# Altium footprint library linear.PCBLIB: 119 footprints (part 6 of 8)
Each footprint in its own frame and in the unit in brackets; x right, y up, seen from the top. Pads: shape width x height; smd on the part's side, far side on the other; paste and mask are expansions set on the pad; w line width, h text height; cw(c..) or ccw(c..) is an arc to the next point about the centre after c.
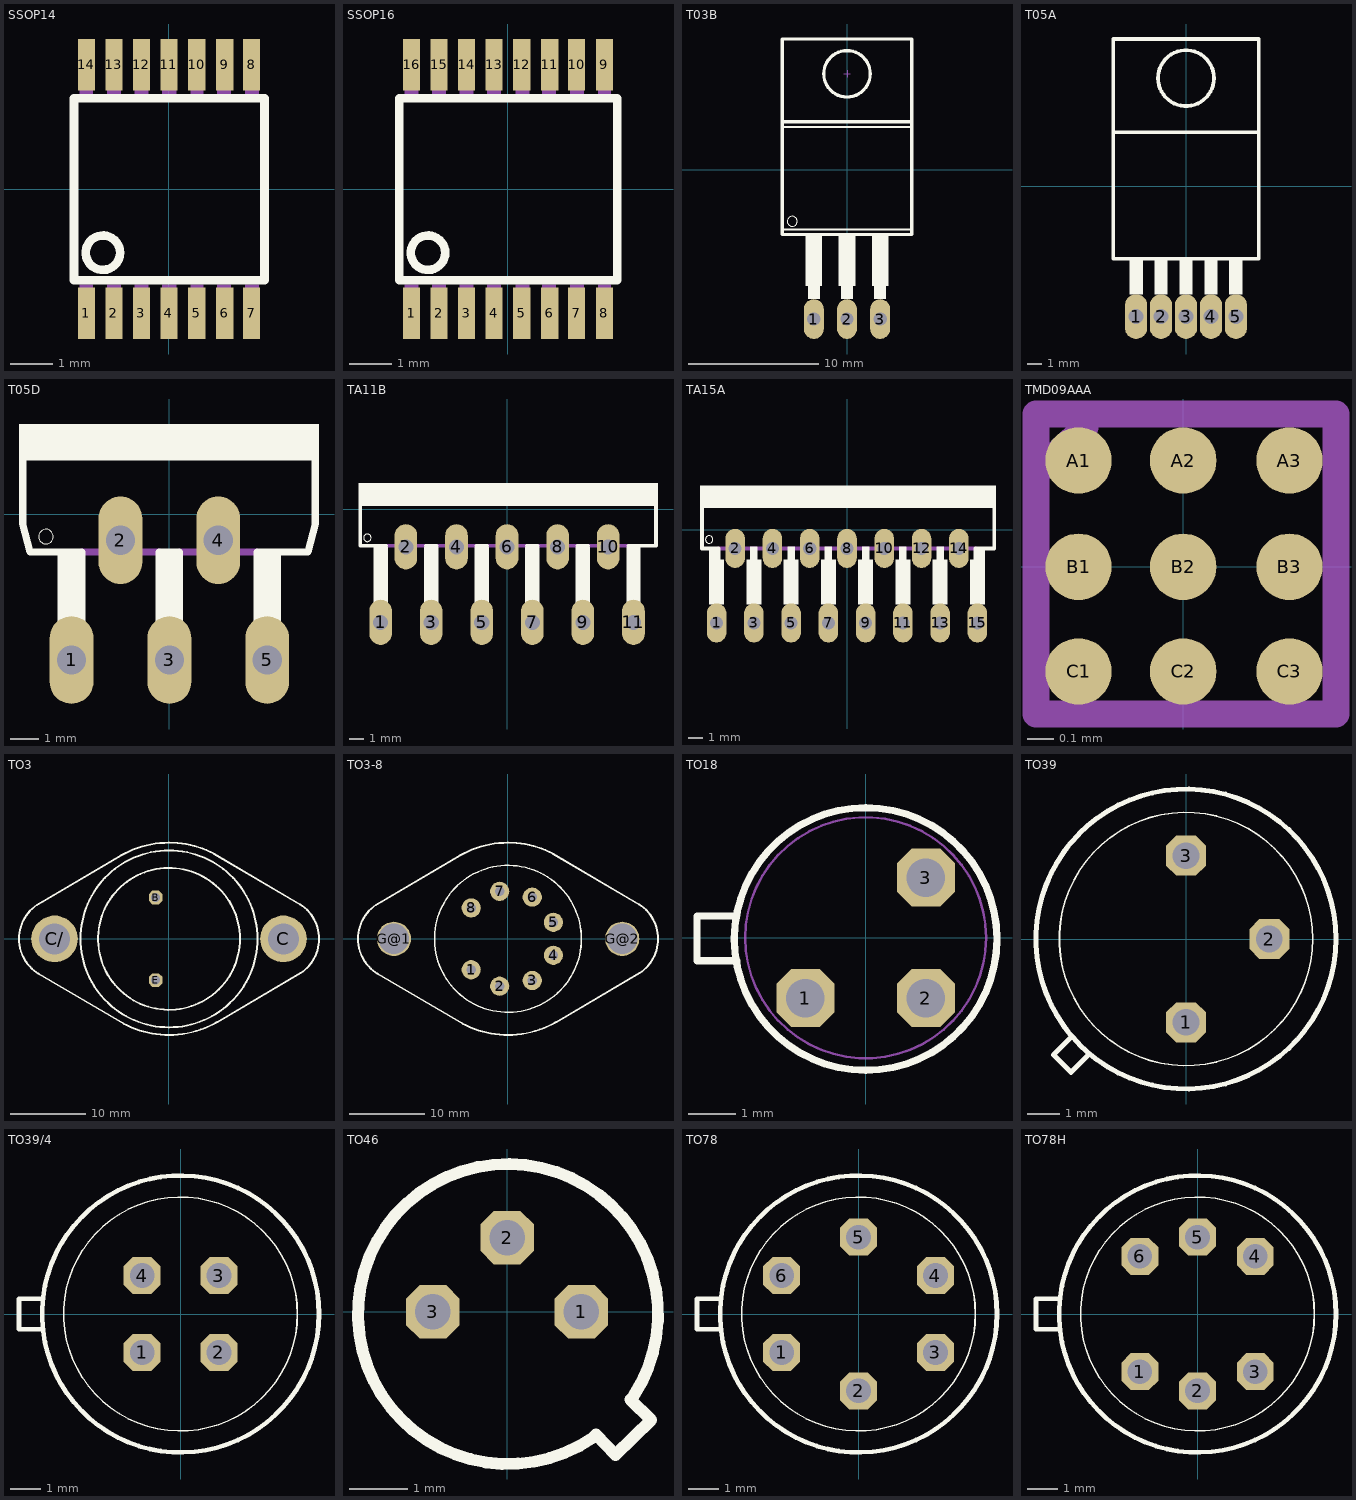
[diagram p5: the footprints below, top view; thin cyan lines are the x and y axes]

## SSOP14 [mil]
pads (14):
  rect 16x48 smd: 1(-76.77,-115.16) 2(-51.18,-115.16) 3(-25.59,-115.16) 4(0,-115.16) 5(26,-115.16) 6(52,-115.16) 7(77,-115.16) 8(77,116) 9(52,116) 10(26,116) 11(0,116) 12(-25.59,116) 13(-51.18,116) 14(-76.77,116)
Top Overlay:
  circle w8: c-61.42,-58.86 r16
  lines w8: -88.31,-84.45 89,-84.45 89,85 -88.31,85 -88.31,-84.45
Mechanical 16:
  rectangle: -83.17,-130.51 -70.37,-88.29
  rectangle: -57.58,-130.51 -44.78,-88.29
  rectangle: -31.99,-130.51 -19.19,-88.29
  rectangle: -6.4,-130.51 7,-88.29
  rectangle: 20,-130.51 32,-88.29
  rectangle: 45,-130.51 58,-88.29
  rectangle: 71,-130.51 84,-88.29
  region: 84,131 71,131 71,89 84,89
  rectangle: 45,89 58,131
  rectangle: 20,89 32,131
  rectangle: -6.4,89 7,131
  rectangle: -31.99,89 -19.19,131
  rectangle: -57.58,89 -44.78,131
  rectangle: -83.17,89 -70.37,131

## SSOP16 [mil]
pads (16):
  rect 16x48 smd: 1(-89.57,-115.16) 2(-63.98,-115.16) 3(-38.39,-115.16) 4(-12.8,-115.16) 5(13,-115.16) 6(39,-115.16) 7(64,-115.16) 8(90,-115.16) 9(90,116) 10(64,116) 11(39,116) 12(13,116) 13(-12.8,116) 14(-38.39,116) 15(-63.98,116) 16(-89.57,116)
Top Overlay:
  circle w8: c-74.21,-58.86 r16
  lines w8: -101.1,-84.45 102,-84.45 102,85 -101.1,85 -101.1,-84.45
Mechanical 16:
  rectangle: -95.96,-130.51 -83.17,-88.29
  rectangle: -70.37,-130.51 -57.58,-88.29
  rectangle: -44.78,-130.51 -31.99,-88.29
  rectangle: -19.19,-130.51 -6.4,-88.29
  rectangle: 7,-130.51 20,-88.29
  rectangle: 32,-130.51 45,-88.29
  rectangle: 58,-130.51 71,-88.29
  rectangle: 84,-130.51 96,-88.29
  rectangle: 84,89 96,131
  rectangle: 58,89 71,131
  rectangle: 32,89 45,131
  rectangle: 7,89 20,131
  rectangle: -19.19,89 -6.4,131
  rectangle: -44.78,89 -31.99,131
  rectangle: -70.37,89 -57.58,131
  rectangle: -95.96,89 -83.17,131

## T03B [mil]
pads (3):
  oval 60x120 hole 40: 1(-100,-450) 2(0,-450) 3(100,-450)
Top Overlay:
  circle w0: c-165,-155 r15
  circle w10: c0,290 r70
  rectangle: -125,-350 -75,-198
  rectangle: -118,-390 -82,-348
  rectangle: -25,-350 25,-198
  rectangle: -18,-390 18,-348
  rectangle: 75,-350 125,-198
  rectangle: 82,-390 118,-348
  lines w6: -190,-180 190,-180 ; -190,130 190,130
  lines w10: -195,145 -195,-195 195,-195 195,145 ; -195,145 -195,395 195,395 195,145 ; -195,145 195,145
Mechanical 16:
  lines w2: -10,290 10,290 ; 0,280 0,300

## T05A [mil]
pads (5):
  oval 60x120 hole 40: 1(-134,-350) 2(-67,-350) 3(0,-350) 4(67,-350) 5(134,-350)
Top Overlay:
  circle w10: c0,290 r75
  rectangle: -152,-290 -116,-195
  rectangle: -85,-290 -49,-195
  rectangle: -18,-290 18,-195
  rectangle: 49,-290 85,-195
  rectangle: 116,-290 152,-195
  lines w10: -195,145 -195,-195 195,-195 195,145 ; -195,145 195,145 ; -195,145 -195,395 195,395 195,145

## T05D [mil]
pads (5):
  oval 60x120 hole 40: 1(-134,-200) 2(-67,-36) 3(0,-200) 4(67,-36) 5(134,-200)
Top Overlay:
  circle w0: c-169,-31 r10
  rectangle: -206,73 205,123
  rectangle: -153,-152 -115,-53
  rectangle: -19,-152 19,-53
  rectangle: 115,-152 153,-53
  lines w10: -201,79 -201,-13 -191,-52 -120,-52 ; -14,-52 14,-52 ; 120,-52 190,-52 200,-13 200,79
Mechanical 16:
  lines w10: -120,-52 -14,-52 ; 14,-52 120,-52

## TA11B [mil]
pads (11):
  oval 60x120 hole 40: 1(-335,-300) 2(-268,-100) 3(-201,-300) 4(-134,-100) 5(-67,-300) 6(0,-100) 7(67,-300) 8(134,-100) 9(201,-300) 10(268,-100) 11(335,-300)
Top Overlay:
  circle w0: c-370,-76 r10
  rectangle: -354,-252 -316,-100
  rectangle: -220,-252 -182,-100
  rectangle: -86,-252 -48,-100
  rectangle: 48,-252 86,-100
  rectangle: 182,-252 220,-100
  rectangle: 316,-252 354,-100
  rectangle: -394,8 400,69
  lines w10: -389,11 -389,-97 -321,-97 ; -215,-97 -187,-97 ; -81,-97 -53,-97 ; 53,-97 81,-97 ; 187,-97 215,-97 ; 321,-97 395,-97 395,34
Mechanical 16:
  lines w10: -321,-97 -215,-97 ; -187,-97 -81,-97 ; -53,-97 53,-97 ; 81,-97 187,-97 ; 215,-97 321,-97

## TA15A [mil]
pads (15):
  oval 52.5x105 hole 35: 1(-350,-250) 2(-300,-50) 3(-250,-250) 4(-200,-50) 5(-150,-250) 6(-100,-50) 7(-50,-250) 8(0,-50) 9(50,-250) 10(100,-50) 11(150,-250) 12(200,-50) 13(250,-250) 14(300,-50) 15(350,-250)
Top Overlay:
  circle w0: c-370,-26 r10
  rectangle: -394,58 400,119
  rectangle: -370,-85 -340,-50
  rectangle: -370,-200 -330,-80
  rectangle: -270,-200 -230,-80
  rectangle: -260,-90 -240,-45
  rectangle: -170,-200 -130,-80
  rectangle: -160,-90 -140,-45
  rectangle: -70,-200 -30,-80
  rectangle: -60,-90 -40,-45
  rectangle: 30,-200 70,-80
  rectangle: 40,-90 60,-45
  rectangle: 130,-200 170,-80
  rectangle: 140,-90 160,-45
  rectangle: 230,-200 270,-80
  rectangle: 240,-90 260,-45
  rectangle: 340,-85 370,-50
  rectangle: 330,-200 370,-80
  lines w10: -389,61 -389,-50 -345,-50 ; 345,-50 395,-50 395,84
Mechanical 16:
  lines w10: -345,-50 345,-50

## TMD09AAA [mil]
pads (9):
  rrect100% 10x10 smd: A1(-15.75,16) A2(0,16) A3(16,16) B1(-15.75,0) B2(0,0) B3(16,0) C1(-15.75,-15.75) C2(0,-15.75) C3(16,-15.75)
Top Solder:
  circle w0: c-15.75,16 r5
  circle w0: c0,16 r5
  circle w0: c16,16 r5
  circle w0: c-15.75,0 r5
  circle w0: c0,0 r5
  circle w0: c16,0 r5
  circle w0: c-15.75,-15.75 r5
  circle w0: c0,-15.75 r5
  circle w0: c16,-15.75 r5
Mechanical 16:
  lines w4: -21.16,15 -14.76,21 ; -22.15,-22.15 23,-22.15 23,23 -22.15,23 -22.15,-22.15

## TO3 [mil]
pads (4):
  oct 70.5x70.5 hole 47: B(-70,215) E(-70,-215)
  round 243 hole 162: C(595,0) C/(-595,0)
Top Overlay:
  circle w10: c0,0 r369
  circle w10: c0,0 r460
  lines w10: -680,180 -250,433 ; -679,-181 -234,-442 ; -675.41,-183.35 cw(c-567,0) -780,0 cw(c-566.81,0.11) -672.94,185 ; -250.86,433 cw(c-0.9,0.24) 0,500 cw(c2,-1) 236,442 ; -235.3,-441.18 ccw(c0,0) 0,-500 ccw(c0.07,0.26) 251,-432.52 ; 235,441 684,178 ; 251,-433 684,-178 ; 683,-178.94 ccw(c567.23,-0.42) 780,0 ccw(c567.17,0.45) 683,179
Mechanical 16:
  circle w6: c595,0 r85
  circle w6: c-595,0 r85

## TO3-8 [mil]
pads (10):
  round 100 hole 48: 1(-191.34,-160.63) 2(-43.31,-246.06) 3(126,-216.54) 4(236,-85.43) 5(236,86) 6(126,217) 7(-43.31,247) 8(-191.34,161)
  round 178 hole 158: G@1(-593.31,0) G@2(594,0)
Top Overlay:
  circle w8: c0,0 r382
  lines w10: -680,180 -250,433 ; -679,-181 -234,-442 ; -675.41,-183.35 cw(c-567,0) -780,0 cw(c-566.81,0.11) -672.94,185 ; -250.86,433 cw(c-0.9,0.24) 0,500 cw(c2,-1) 236,442 ; -235.3,-441.18 ccw(c0,0) 0,-500 ccw(c0.07,0.26) 251,-432.52 ; 235,441 684,178 ; 251,-433 684,-178 ; 683,-178.94 ccw(c567.23,-0.42) 780,0 ccw(c567.17,0.45) 683,179

## TO18 [mil]
pads (3):
  oct 48x48 hole 32: 1(-50,-50) 2(50,-50) 3(50,50)
Top Overlay:
  circle w6: c0,-1 r109
  lines w6: -108,18 -140,18 -140,-19 -107,-19
Mechanical 16:
  circle w2: c0,0 r100

## TO39 [mil]
pads (3):
  oct 48x48 hole 32: 1(0,-100) 2(100,0) 3(0,100)
Top Overlay:
  circle w6: c0,0 r180
  circle w2: c0,0 r152
  lines w6: -138,-118 -159,-139 -138,-160 -117,-139

## TO39/4 [mil]
pads (4):
  oct 48x48 hole 32: 1(-50,-50) 2(50,-50) 3(50,50) 4(-50,50)
Top Overlay:
  circle w6: c0,0 r180
  circle w2: c0,0 r152
  lines w6: -180,-20 -210,-20 -210,20 -180,20

## TO46 [mil]
pads (3):
  oct 36x36 hole 24: 1(50,0) 2(0,50) 3(-50,0)
Top Overlay:
  lines w8: 58,-84.65 cw(c0.63,-1.44) 85,-57.09 ; 60,-82.68 73,-96.46 97,-72.83 83,-59.06

## TO78 [mil]
pads (6):
  oct 48x48 hole 32: 1(-100,-50) 2(0,-100) 3(100,-50) 4(100,50) 5(0,100) 6(-100,50)
Top Overlay:
  circle w6: c0,0 r180
  circle w2: c0,0 r152
  lines w6: -180,-20 -210,-20 -210,20 -180,20

## TO78H [mil]
pads (6):
  oct 48x48 hole 32: 1(-75,-75) 2(0,-100) 3(75,-75) 4(75,75) 5(0,100) 6(-75,75)
Top Overlay:
  circle w6: c0,0 r180
  circle w2: c0,0 r152
  lines w6: -180,-20 -210,-20 -210,20 -180,20